# EAGLE library part MFRC500 (library OddsBooster)
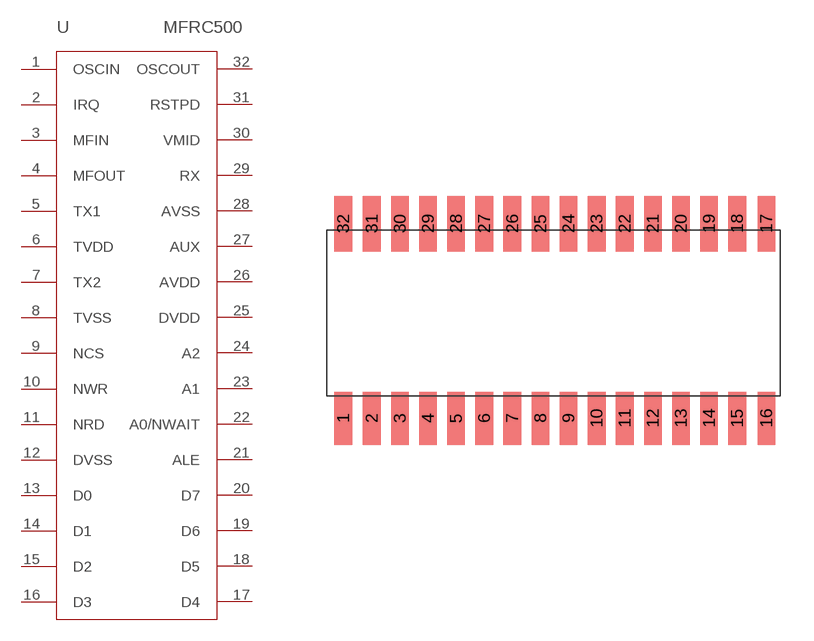
[diagram p4: symbol with the pads of MFRC500; footprint MFRC500]

Designator prefix U

## MFRC500  [MFRC500]
1  OSCIN  in
2  IRQ  out
3  MFIN  in
4  MFOUT  out
5  TX1  out
6  TVDD  pwr
7  TX2  out
8  TVSS  pwr
9  NCS  in
10  NWR  in
11  NRD  in
12  DVSS  pwr
13  D0
14  D1
15  D2
16  D3
17  D4
18  D5
19  D6
20  D7
21  ALE  in
22  A0/NWAIT
23  A1  in
24  A2  in
25  DVDD  pwr
26  AVDD  pwr
27  AUX  out
28  AVSS  pwr
29  RX  in
30  VMID  pwr
31  RSTPD  in
32  OSCOUT  out

## Footprint MFRC500 (pad centres in mm)
smd 0.8 x 2.4: 1 0.75,-8.5; 2 2.04,-8.5; 3 3.31,-8.5; 4 4.58,-8.5; 5 5.85,-8.5; 6 7.12,-8.5; 7 8.39,-8.5; 8 9.66,-8.5; 9 10.93,-8.5; 10 12.2,-8.5; 11 13.47,-8.5; 12 14.74,-8.5; 13 16.01,-8.5; 14 17.28,-8.5; 15 18.55,-8.5; 16 19.87,-8.5
smd 0.8 x 2.5: 17 19.87,0.3; 18 18.55,0.3; 19 17.28,0.3; 20 16.01,0.3; 21 14.74,0.3; 22 13.47,0.3; 23 12.2,0.3; 24 10.93,0.3; 25 9.66,0.3; 26 8.39,0.3; 27 7.12,0.3; 28 5.85,0.3; 29 4.58,0.3; 30 3.31,0.3; 31 2.04,0.3; 32 0.75,0.3